# Altium schematic symbol library SSF1919P-S.SchLib: 1 symbol
Pins are listed as number, name and electrical type; pins without a type are passive.

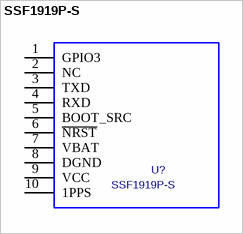
[diagram p0: symbol SSF1919P-S]

## SSF1919P-S
designator U?
Value: *
footprint SSF1919P-S
pins: 1 GPIO3, 2 NC, 3 TXD, 4 RXD, 5 BOOT_SRC, 6 ~{NRST}, 7 VBAT, 8 DGND, 9 VCC, 10 1PPS